# EAGLE library part AVR-ATMEGA168-MLF32 (library tidyeagle)
Atmel 8-bit Microcontroller in MLF32 package. Datasheet: Summary <http://www.atmel.com/dyn/resources/prod_documents/8271S.pdf>, Full <http://www.atmel.com/dyn/resources/prod_documents/doc8271.pdf> Application Notes: AVR042 - Hardware Design Considerations <http://atmel.com/dyn/resources/prod_documents/doc2521.pdf> The central pad (GND-PAD) should be connected and soldered to ground, as per the datasheet for this part. Supports the following chips - ATmega48PA ATmega88PA ATmega168PA ATmega328P With Arduino pin labelling.
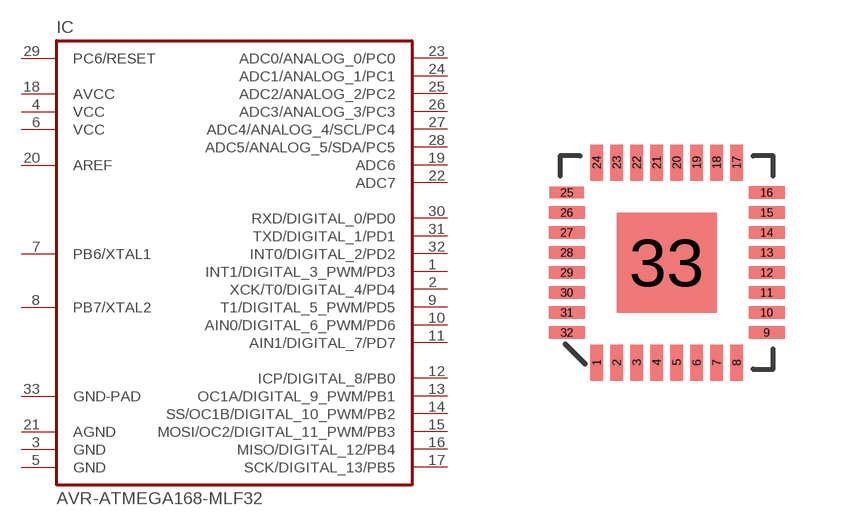
[diagram p1: symbol with the pads of MLF32; footprint MLF32]

Designator prefix IC

## AVR-ATMEGA168-MLF32 (MANUFACTURER: Atmel)  [MLF32]
1  INT1/DIGITAL_3_PWM/PD3
2  XCK/T0/DIGITAL_4/PD4
3  GND  pwr
4  VCC  pwr
5  GND  pwr
6  VCC  pwr
7  PB6/XTAL1
8  PB7/XTAL2
9  T1/DIGITAL_5_PWM/PD5
10  AIN0/DIGITAL_6_PWM/PD6
11  AIN1/DIGITAL_7/PD7
12  ICP/DIGITAL_8/PB0
13  OC1A/DIGITAL_9_PWM/PB1
14  SS/OC1B/DIGITAL_10_PWM/PB2
15  MOSI/OC2/DIGITAL_11_PWM/PB3
16  MISO/DIGITAL_12/PB4
17  SCK/DIGITAL_13/PB5
18  AVCC  pwr
19  ADC6
20  AREF
21  AGND  pwr
22  ADC7
23  ADC0/ANALOG_0/PC0
24  ADC1/ANALOG_1/PC1
25  ADC2/ANALOG_2/PC2
26  ADC3/ANALOG_3/PC3
27  ADC4/ANALOG_4/SCL/PC4
28  ADC5/ANALOG_5/SDA/PC5
29  PC6/RESET
30  RXD/DIGITAL_0/PD0
31  TXD/DIGITAL_1/PD1
32  INT0/DIGITAL_2/PD2
33  GND-PAD  pwr

## Footprint MLF32 (pad centres in mm)
Not Tested.
smd 0.305 x 0.9: 1 -1.75,-2.5; 2 -1.25,-2.5; 3 -0.75,-2.5; 4 -0.25,-2.5; 5 0.25,-2.5; 6 0.75,-2.5; 7 1.25,-2.5; 8 1.75,-2.5; 17 1.75,2.5; 18 1.25,2.5; 19 0.75,2.5; 20 0.25,2.5; 21 -0.25,2.5; 22 -0.75,2.5; 23 -1.25,2.5; 24 -1.75,2.5
smd 0.9 x 0.305: 9 2.5,-1.75; 10 2.5,-1.25; 11 2.5,-0.75; 12 2.5,-0.25; 13 2.5,0.25; 14 2.5,0.75; 15 2.5,1.25; 16 2.5,1.75; 25 -2.5,1.75; 26 -2.5,1.25; 27 -2.5,0.75; 28 -2.5,0.25; 29 -2.5,-0.25; 30 -2.5,-0.75; 31 -2.5,-1.25; 32 -2.5,-1.75
smd 2.5 x 2.5: 33 0,0